# Altium schematic symbol library QUTMS_JST_PH.SchLib: 1 symbol
Pins are listed as number, name and electrical type; pins without a type are passive.

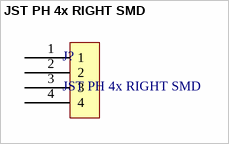
[diagram p0: symbol JST PH 4x RIGHT SMD]

## JST PH 4x RIGHT SMD
designator J?
pins: 1, 2, 3, 4